# Altium schematic symbol library Inductors & Transformers.SchLib: 1 symbol
Pins are listed as number, name and electrical type; pins without a type are passive.

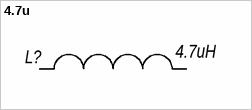
[diagram p0: symbol 4.7u]

## 4.7u
designator L?, comment 4.7uH
Катушка индуктивности 4.7 мкГн
footprint SP43-4R7M (Chip Inductor, 2-Leads, Body 4,50x4,00mm, IPC Medium Density)
pins: 1, 2